# Altium schematic symbol library 1008 Inductor.SchLib: 1 symbol
Pins are listed as number, name and electrical type; pins without a type are passive.

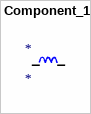
[diagram p0: symbol Component_1]

## Component_1
designator *
footprint INDC2924X10N (Chip Inductor, 2-Leads, Body 2.90x2.40mm, IPC Medium Density)
pins: 0, 1